# EAGLE library part FEATURE_BOARD (library Genus_Feature_Board)
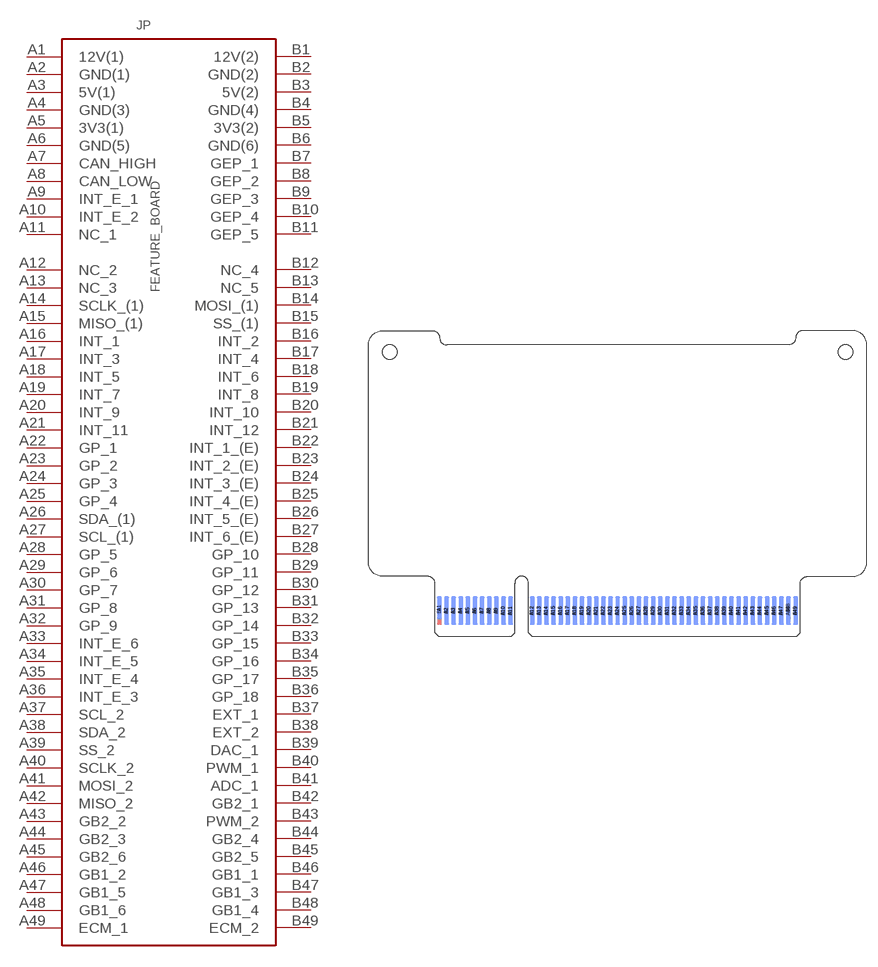
[diagram p0: symbol with the pads of PCI-E_164_EDGE; footprint PCI-E_164_EDGE]

Designator prefix JP

## FEATURE_BOARD  [PCI-E_164_EDGE]
A1  12V(1)  pwr
A2  GND(1)  sup
A3  5V(1)  pwr
A4  GND(3)  sup
A5  3V3(1)  pwr
A6  GND(5)  sup
A7  CAN_HIGH
A8  CAN_LOW
A9  INT_E_1
A10  INT_E_2
A11  NC_1
A12  NC_2
A13  NC_3
A14  SCLK_(1)
A15  MISO_(1)
A16  INT_1
A17  INT_3
A18  INT_5
A19  INT_7
A20  INT_9
A21  INT_11
A22  GP_1
A23  GP_2
A24  GP_3
A25  GP_4
A26  SDA_(1)
A27  SCL_(1)
A28  GP_5
A29  GP_6
A30  GP_7
A31  GP_8
A32  GP_9
A33  INT_E_6
A34  INT_E_5
A35  INT_E_4
A36  INT_E_3
A37  SCL_2
A38  SDA_2
A39  SS_2
A40  SCLK_2
A41  MOSI_2
A42  MISO_2
A43  GB2_2
A44  GB2_3
A45  GB2_6
A46  GB1_2
A47  GB1_5
A48  GB1_6
A49  ECM_1
B1  12V(2)  pwr
B2  GND(2)  sup
B3  5V(2)  pwr
B4  GND(4)  sup
B5  3V3(2)  pwr
B6  GND(6)  sup
B7  GEP_1
B8  GEP_2
B9  GEP_3
B10  GEP_4
B11  GEP_5
B12  NC_4
B13  NC_5
B14  MOSI_(1)
B15  SS_(1)
B16  INT_2
B17  INT_4
B18  INT_6
B19  INT_8
B20  INT_10
B21  INT_12
B22  INT_1_(E)
B23  INT_2_(E)
B24  INT_3_(E)
B25  INT_4_(E)
B26  INT_5_(E)
B27  INT_6_(E)
B28  GP_10
B29  GP_11
B30  GP_12
B31  GP_13
B32  GP_14
B33  GP_15
B34  GP_16
B35  GP_17
B36  GP_18
B37  EXT_1
B38  EXT_2
B39  DAC_1
B40  PWM_1
B41  ADC_1
B42  GB2_1
B43  PWM_2
B44  GB2_4
B45  GB2_5
B46  GB1_1
B47  GB1_3
B48  GB1_4
B49  ECM_2

## Footprint PCI-E_164_EDGE (pad centres in mm)
smd 0.7 x 3.2 bottom: A1 0.62,4
smd 0.7 x 4 bottom: A2 1.62,3.6; A3 2.62,3.6; A4 3.62,3.6; A5 4.62,3.6; A6 5.62,3.6; A7 6.62,3.6; A8 7.62,3.6; A9 8.62,3.6; A10 9.62,3.6; A11 10.62,3.6; A12 13.65,3.6; A13 14.65,3.6; A14 15.65,3.6; A15 16.65,3.6; A16 17.65,3.6; A17 18.65,3.6; A18 19.65,3.6; A19 20.65,3.6; A20 21.65,3.6; A21 22.65,3.6; A22 23.65,3.6; A23 24.65,3.6; A24 25.65,3.6; A25 26.65,3.6; A26 27.65,3.6; A27 28.65,3.6; A28 29.65,3.6; A29 30.65,3.6; A30 31.65,3.6; A31 32.65,3.6; A32 33.65,3.6; A33 34.65,3.6; A34 35.65,3.6; A35 36.65,3.6; A36 37.65,3.6; A37 38.65,3.6; A38 39.65,3.6; A39 40.65,3.6; A40 41.65,3.6; A41 42.65,3.6; A42 43.65,3.6; A43 44.65,3.6; A44 45.65,3.6; A45 46.65,3.6; A46 47.65,3.6; A47 48.65,3.6; A48 49.65,3.6; A49 50.65,3.6
smd 0.7 x 4: B1 0.62,3.6; B2 1.62,3.6; B3 2.62,3.6; B4 3.62,3.6; B5 4.62,3.6; B6 5.62,3.6; B7 6.62,3.6; B8 7.62,3.6; B9 8.62,3.6; B10 9.62,3.6; B11 10.62,3.6; B12 13.65,3.6; B13 14.65,3.6; B14 15.65,3.6; B15 16.65,3.6; B16 17.65,3.6; B17 18.65,3.6; B18 19.65,3.6; B19 20.65,3.6; B20 21.65,3.6; B21 22.65,3.6; B22 23.65,3.6; B23 24.65,3.6; B24 25.65,3.6; B25 26.65,3.6; B26 27.65,3.6; B27 28.65,3.6; B28 29.65,3.6; B29 30.65,3.6; B30 31.65,3.6; B31 32.65,3.6; B32 33.65,3.6; B33 34.65,3.6; B34 35.65,3.6; B35 36.65,3.6; B36 37.65,3.6; B37 38.65,3.6; B38 39.65,3.6; B39 40.65,3.6; B40 41.65,3.6; B41 42.65,3.6; B42 43.65,3.6; B43 44.65,3.6; B44 45.65,3.6; B45 46.65,3.6; B46 47.65,3.6; B47 48.65,3.6; B49 50.65,3.6
smd 0.7 x 3.2: B48 49.65,4.01
hole 2 at -6.35,39.9
hole 2 at 57.65,39.9